# EAGLE library part USB_MR5-003 (library Domino)
Micro USB Type B Receptacle, 3 Shield Pins
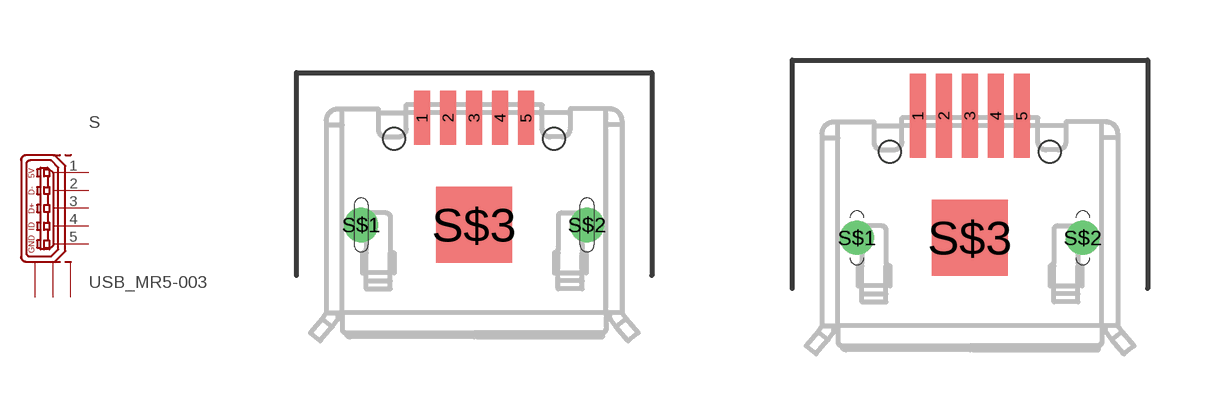
[diagram p14: symbol with the pads of USB_MR5-003A; footprints USB_MR5-003A, USB_MR5_003C]

Designator prefix S

## USB_MR5-003A  [USB_MR5-003A]
1  1  pas
2  2  pas
3  3  pas
4  4  pas
5  5  pas
S$1  M0  pas
S$2  M1  pas
S$3  M2  pas

## USB_MR5-003C  [USB_MR5_003C]
Pads as for USB_MR5-003A

## Footprint USB_MR5-003A (pad centres in mm)
MicroUSB B Type Receptacle, 2 Shield Pins, 1 Shield Pad, Short Pins
smd 0.4 x 1.35: 1 -1.3,2.675; 2 -0.65,2.675; 3 0,2.675; 4 0.65,2.675; 5 1.3,2.675
drill 0.35: S$1 -2.825,0; S$2 2.825,0
smd 1.9 x 1.9: S$3 0,0
hole 0.55 at -2,2.15
hole 0.55 at 2,2.15

## Footprint USB_MR5_003C (pad centres in mm)
MicroUSB B Type Receptacle, 2 Shield Pins, 1 Shield Pad, Long Pins
smd 0.4 x 2.1: 1 -1.3,3.05; 2 -0.65,3.05; 3 0,3.05; 4 0.65,3.05; 5 1.3,3.05
drill 0.35: S$1 -2.825,0; S$2 2.825,0
smd 1.9 x 1.9: S$3 0,0
hole 0.55 at -2,2.15
hole 0.55 at 2,2.15